# EAGLE library part PLD2MM_6 (library rfdi)
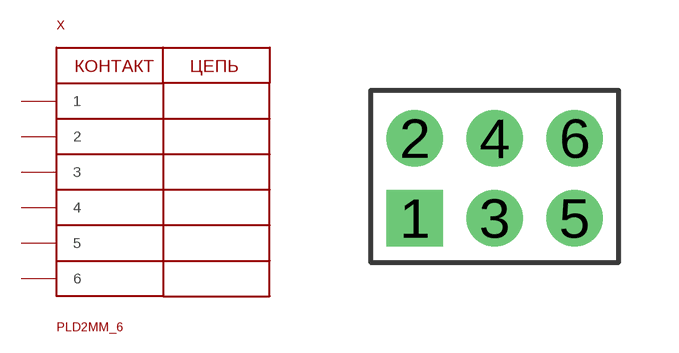
[diagram p2: symbol with the pads of PLD2MM_6; footprint PLD2MM_6]

Designator prefix X

## PLD2MM_6  [PLD2MM_6]
1  1
2  2
3  3
4  4
5  5
6  6

## Footprint PLD2MM_6 (pad centres in mm)
drill 0.8 pad 1.422 square: 1 -2,-1
drill 0.8 pad 1.422: 2 -2,1; 3 0,-1; 4 0,1; 5 2,-1; 6 2,1